# EAGLE library part 74LVC2G66 (library gee_s)
Single Analog / Bilateral Switch Source: http://www.semiconductors.philips.com/acrobat_download/datasheets/74HC_HCT1G66_3.pdf
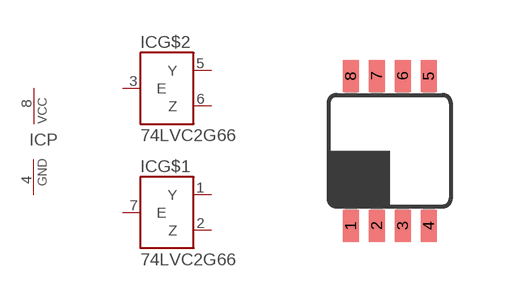
[diagram p19: symbol with the pads of DCT_R-PDSO-G8; footprint DCT_R-PDSO-G8]

Designator prefix IC; gates P=PWRN G$2=7466 G$1=7466

## 74LVC2G66DCT  [DCT_R-PDSO-G8]
1  G$1:Y
2  G$1:Z
3  G$2:E  in
4  P:GND  pwr
5  G$2:Y
6  G$2:Z
7  G$1:E  in
8  P:VCC  pwr

## Footprint DCT_R-PDSO-G8 (pad centres in mm)
DCT (R-PDSO-G8) PLSTIG SMALL-OUTLINE PACKAGE Source: http://focus.ti.com/lit/ds/symlink/sn74lvc2g53.pdf
smd 0.4 x 0.8: 1 -0.975,-1.875; 2 -0.325,-1.875; 3 0.325,-1.875; 4 0.975,-1.875; 5 0.975,1.875; 6 0.325,1.875; 7 -0.325,1.875; 8 -0.975,1.875